# Altium footprint library 1812L_fuse.PcbLib: 1 footprints
Each footprint in its own frame and in the unit in brackets; x right, y up, seen from the top. Pads: shape width x height; smd on the part's side, far side on the other; paste and mask are expansions set on the pad; w line width, h text height; cw(c..) or ccw(c..) is an arc to the next point about the centre after c.
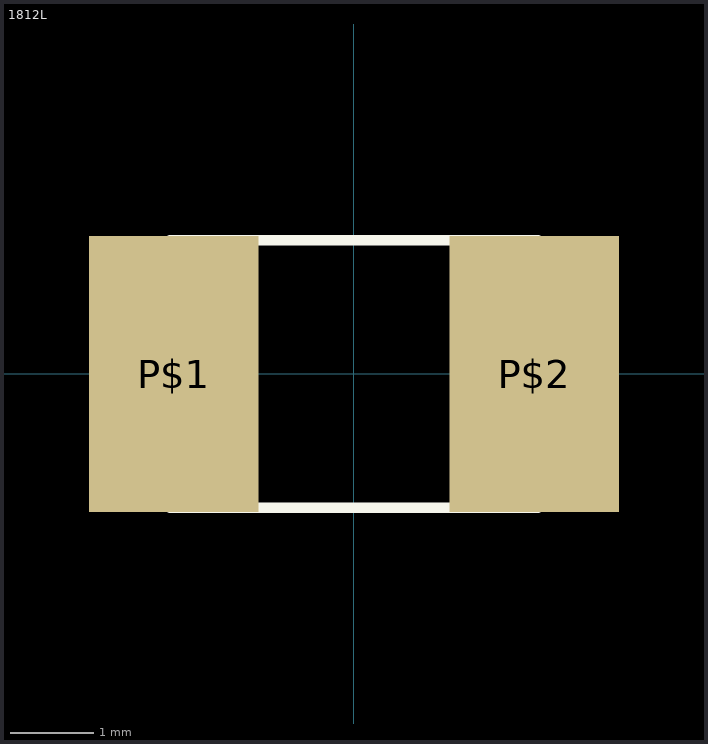
[diagram p0: the footprint, top view; thin cyan lines are the x and y axes]

## 1812L [mm]
pads (2):
  rect 2.03x3.3 smd: P$1(-2.16,0) P$2(2.16,0)
Top Overlay:
  lines w0.127: -1.5,-1.6 1.5,-1.6 ; -1.5,-1.6 -2.2,-1.6 -2.2,-0.4 ccw(c-2.2,0) -2.2,0.4 -2.2,1.6 -1.5,1.6 ; -1.5,-1.6 -1.5,1.6 ; -1.5,1.6 1.5,1.6 ; 1.5,-1.6 2.2,-1.6 2.2,-0.4 cw(c2.2,0) 2.2,0.4 2.2,1.6 1.5,1.6 ; 1.5,-1.6 1.5,1.6
3D body "1812L.STEP": height 1.25, standoff 0, extent -2.275,-1.62 2.275,1.62